# Altium footprint library Hybrid Supercap.PcbLib: 1 footprints
Each footprint in its own frame and in the unit in brackets; x right, y up, seen from the top. Pads: shape width x height; smd on the part's side, far side on the other; paste and mask are expansions set on the pad; w line width, h text height; cw(c..) or ccw(c..) is an arc to the next point about the centre after c.
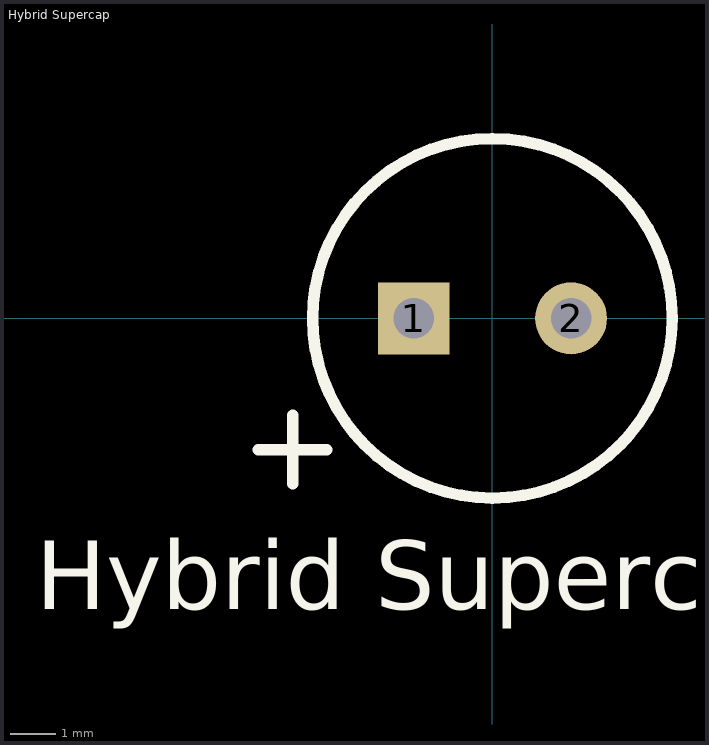
[diagram p0: the footprint, top view; thin cyan lines are the x and y axes]

## Hybrid Supercap [mm]
pads (2):
  rect 1.6x1.6 hole 0.9: 1(-1.75,0)
  round 1.6 hole 0.9: 2(1.75,0)
Top Overlay:
  circle w0.254: c0,0 r4
  lines w0.254: -5.207,-2.921 -3.683,-2.921 ; -4.445,-3.683 -4.445,-2.159
  text "Hybrid Supercap" at -10.16,-6.477 h1.52